# Altium schematic symbol library SD103AWS-E3-08.SchLib: 2 symbols
Pins are listed as number, name and electrical type; pins without a type are passive.

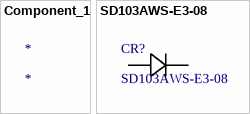
[diagram p0: symbols Component_1 to SD103AWS-E3-08]

## Component_1
designator *

## SD103AWS-E3-08
designator CR?
SCHOTTKY DIODE SOD323; Manufacturer_Name: Vishay; Copyright: Copyright (C) 2025 Ultra Librarian. All rights reserved.; Manufacturer_Part_Number: SD103AWS-E3-08; Datasheet: https://www.vishay.com/doc?85682
footprint CR_WS-E3-08_VIS
pins: 1, 2